# Altium footprint library C5SMFRJECT0W0BB2.PcbLib: 1 footprints
Each footprint in its own frame and in the unit in brackets; x right, y up, seen from the top. Pads: shape width x height; smd on the part's side, far side on the other; paste and mask are expansions set on the pad; w line width, h text height; cw(c..) or ccw(c..) is an arc to the next point about the centre after c.
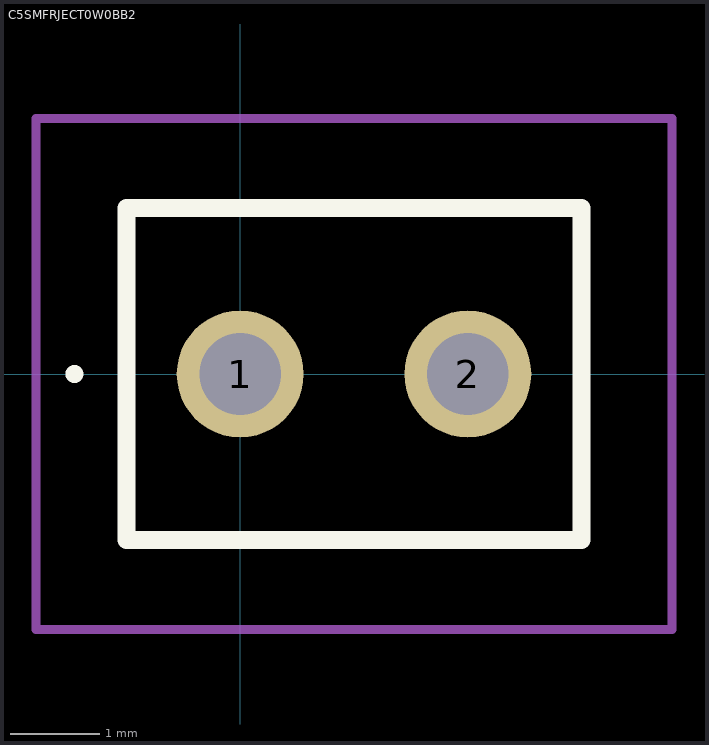
[diagram p0: the footprint, top view; thin cyan lines are the x and y axes]

## C5SMFRJECT0W0BB2 [mm]
pads (2):
  round 1.416 hole 0.91: 1(0,0) 2(2.54,0)
Top Overlay:
  lines w0.1: -1.9,0 cw(c-1.85,0) -1.8,0 ; -1.9,0 -1.9,0 ; -1.9,0 ccw(c-1.85,0) -1.8,0 ; -1.8,0 -1.8,0
  lines w0.2: -1.27,-1.85 3.81,-1.85 3.81,1.85 -1.27,1.85 -1.27,-1.85
Mechanical 15:
  lines w0.1: -1.28,-1.85 3.82,-1.85 3.82,1.85 -1.28,1.85 -1.28,-1.85
Mechanical 20:
  lines w0.1: -2.28,-2.85 4.82,-2.85 4.82,2.85 -2.28,2.85 -2.28,-2.85